# Altium schematic symbol library Symbols.SchLib: 21 symbols
Pins are listed as number, name and electrical type; pins without a type are passive.

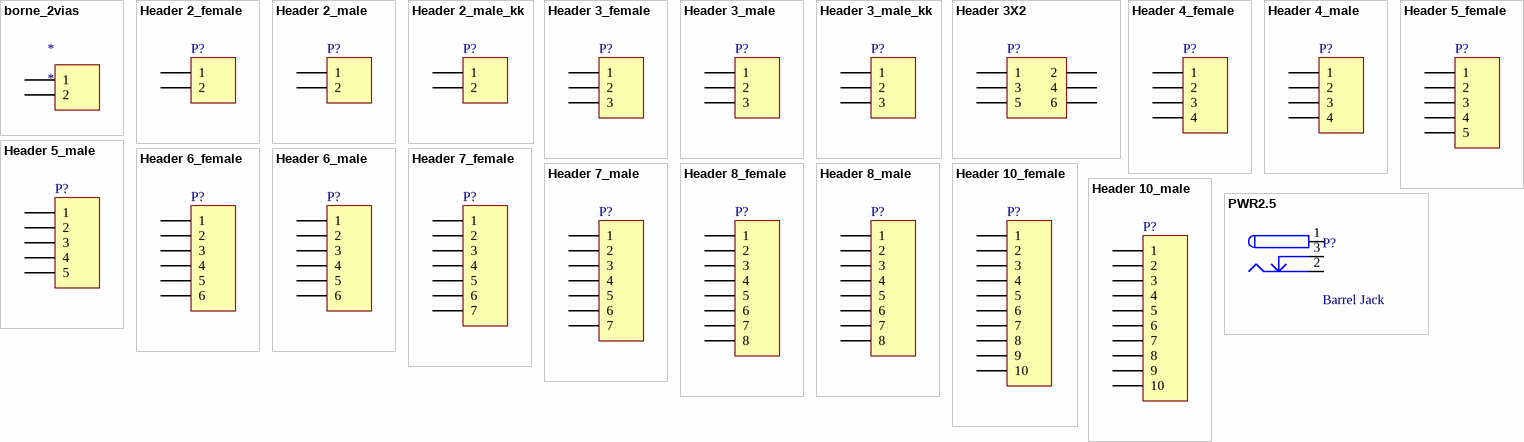
[diagram p0: symbols borne_2vias to PWR2.5]

## borne_2vias
designator *
footprint BORNE_2VIAS
pins: 1, 2

## Header 2_female
designator P?
Header, 2-Pin; LatestRevisionDate: 17-Jul-2002; LatestRevisionNote: Re-released for DXP Platform.; Publisher: Altium Limited
signal-integrity model Connector
footprint HDR1X2_F (Connector; Header; 2 Position)
pins: 1, 2

## Header 2_male
designator P?
Header, 2-Pin; LatestRevisionDate: 17-Jul-2002; LatestRevisionNote: Re-released for DXP Platform.; Publisher: Altium Limited
signal-integrity model Connector
footprint HDR1X2_M (Connector; Header; 2 Position)
pins: 1, 2

## Header 2_male_kk
designator P?
Header, 2-Pin; LatestRevisionDate: 17-Jul-2002; LatestRevisionNote: Re-released for DXP Platform.; Publisher: Altium Limited
signal-integrity model Connector
footprint HDR1X2_M - KK (Connector; Header; 2 Position)
pins: 1, 2

## Header 3_female
designator P?
Header, 3-Pin; LatestRevisionDate: 17-Jul-2002; LatestRevisionNote: Re-released for DXP Platform.; Publisher: Altium Limited
signal-integrity model Connector
footprint HDR1X3_F (Connector; Header; 3 Position)
pins: 1, 2, 3

## Header 3_male
designator P?
Header, 3-Pin; LatestRevisionDate: 17-Jul-2002; LatestRevisionNote: Re-released for DXP Platform.; Publisher: Altium Limited
signal-integrity model Connector
footprint HDR1X3_M (Connector; Header; 3 Position)
pins: 1, 2, 3

## Header 3_male_kk
designator P?
Header, 3-Pin; LatestRevisionDate: 17-Jul-2002; LatestRevisionNote: Re-released for DXP Platform.; Publisher: Altium Limited
signal-integrity model Connector
footprint HDR1X3_M - KK (Connector; Header; 3 Position)
pins: 1, 2, 3

## Header 3X2
designator P?
Header, 3-Pin, Dual row; LatestRevisionDate: 17-Jul-2002; LatestRevisionNote: Re-released for DXP Platform.; Publisher: Altium Limited
signal-integrity model Connector
footprint HDR2X3M (Connector; Header; 3x2 Position)
pins: 1, 2, 3, 4, 5, 6

## Header 4_female
designator P?
Header, 4-Pin; LatestRevisionDate: 17-Jul-2002; LatestRevisionNote: Re-released for DXP Platform.; Publisher: Altium Limited
signal-integrity model Connector
footprint HDR1X4_F (Connector; Header; 4 Position)
pins: 1, 2, 3, 4

## Header 4_male
designator P?
Header, 4-Pin; LatestRevisionDate: 17-Jul-2002; LatestRevisionNote: Re-released for DXP Platform.; Publisher: Altium Limited
signal-integrity model Connector
footprint HDR1X4_M (Connector; Header; 4 Position)
pins: 1, 2, 3, 4

## Header 5_female
designator P?
Header, 5-Pin; LatestRevisionDate: 17-Jul-2002; LatestRevisionNote: Re-released for DXP Platform.; Publisher: Altium Limited
signal-integrity model Connector
footprint HDR1X5_F (Connector; Header; 5 Position)
pins: 1, 2, 3, 4, 5

## Header 5_male
designator P?
Header, 5-Pin; LatestRevisionDate: 17-Jul-2002; LatestRevisionNote: Re-released for DXP Platform.; Publisher: Altium Limited
signal-integrity model Connector
footprint HDR1X5_M (Connector; Header; 5 Position)
pins: 1, 2, 3, 4, 5

## Header 6_female
designator P?
Header, 6-Pin; LatestRevisionDate: 17-Jul-2002; LatestRevisionNote: Re-released for DXP Platform.; Publisher: Altium Limited
signal-integrity model Connector
footprint HDR1X6F (Connector; Header; 6 Position)
pins: 1, 2, 3, 4, 5, 6

## Header 6_male
designator P?
Header, 6-Pin; LatestRevisionDate: 17-Jul-2002; LatestRevisionNote: Re-released for DXP Platform.; Publisher: Altium Limited
signal-integrity model Connector
footprint HDR1X6m (Connector; Header; 6 Position)
pins: 1, 2, 3, 4, 5, 6

## Header 7_female
designator P?
Header, 7-Pin; LatestRevisionDate: 17-Jul-2002; LatestRevisionNote: Re-released for DXP Platform.; Publisher: Altium Limited
signal-integrity model Connector
footprint HDR1X7_F (Connector; Header; 7 Position)
pins: 1, 2, 3, 4, 5, 6, 7

## Header 7_male
designator P?
Header, 7-Pin; LatestRevisionDate: 17-Jul-2002; LatestRevisionNote: Re-released for DXP Platform.; Publisher: Altium Limited
signal-integrity model Connector
footprint HDR1X7_M (Connector; Header; 7 Position)
pins: 1, 2, 3, 4, 5, 6, 7

## Header 8_female
designator P?
Header, 8-Pin; LatestRevisionDate: 17-Jul-2002; LatestRevisionNote: Re-released for DXP Platform.; Publisher: Altium Limited
signal-integrity model Connector
footprint HDR1X8F (Connector; Header; 8 Position)
pins: 1, 2, 3, 4, 5, 6, 7, 8

## Header 8_male
designator P?
Header, 8-Pin; LatestRevisionDate: 17-Jul-2002; LatestRevisionNote: Re-released for DXP Platform.; Publisher: Altium Limited
signal-integrity model Connector
footprint HDR1X8M (Connector; Header; 8 Position)
pins: 1, 2, 3, 4, 5, 6, 7, 8

## Header 10_female
designator P?
Header, 10-Pin; LatestRevisionDate: 17-Jul-2002; LatestRevisionNote: Re-released for DXP Platform.; Publisher: Altium Limited
signal-integrity model Connector
footprint HDR1X10_F (Connector; Header; 10 Position)
pins: 1, 2, 3, 4, 5, 6, 7, 8, 9, 10

## Header 10_male
designator P?
Header, 10-Pin; LatestRevisionDate: 17-Jul-2002; LatestRevisionNote: Re-released for DXP Platform.; Publisher: Altium Limited
signal-integrity model Connector
footprint HDR1X10_M (Connector; Header; 10 Position)
pins: 1, 2, 3, 4, 5, 6, 7, 8, 9, 10

## PWR2.5
designator P?, comment Barrel Jack
Low Voltage Power Supply Connector; Manufacturer: Memory Protection Devices; Manufacturer Part Number: EJ503A; Pricing 1: 1=2.7, 10=2.447, 100=2.0977, 500=1.74806, 1000=1.49834 (USD); Stock 1: 1084; Supplier 1: Digi-Key; Supplier Part Number 1: EJ503A-ND
footprint BARREL2.5 (DC Power Jack, 2.5mm, KLD Series, PCB Mount)
pins: 1, 2, 3